# EAGLE library part MT48LC8M16A2 (library parts)
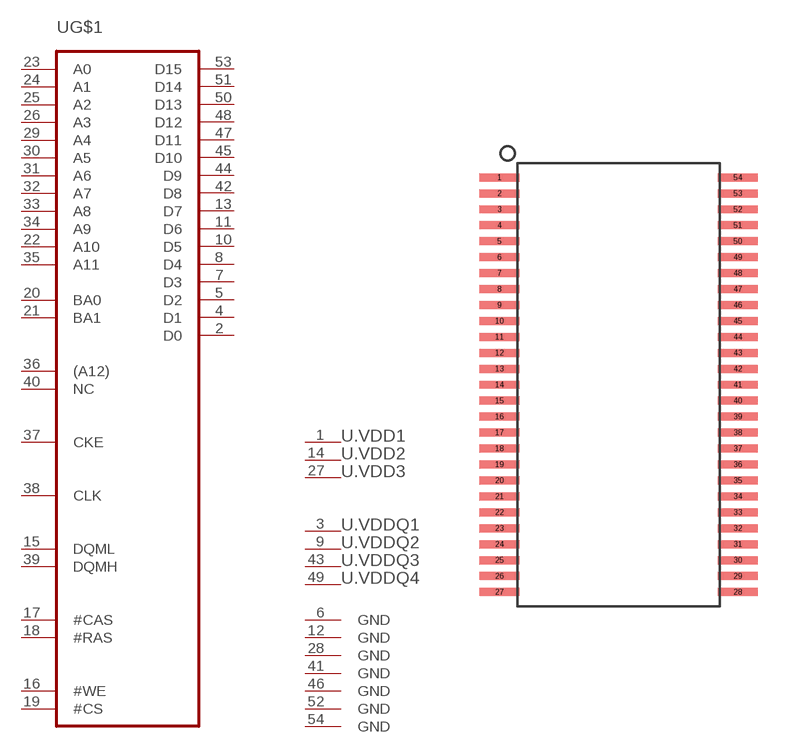
[diagram p1: symbol with the pads of TSSOP-54; footprint TSSOP-54]

Designator prefix U; gates G$1=MT48LC8M16A2 .VDD1=VDD .VDD2=VDD .VDD3=VDD .VDDQ1=VDDQ .VDDQ2=VDDQ .VDDQ3=VDDQ .VDDQ4=VDDQ G$2=GND G$3=GND G$4=GND G$5=GND G$6=GND G$7=GND G$8=GND

## MT48LC8M16A2  [TSSOP-54]
1  .VDD1:VDD  pwr
2  G$1:D0
3  .VDDQ1:VDDQ  pwr
4  G$1:D1
5  G$1:D2
6  G$2:GND  pwr
7  G$1:D3
8  G$1:D4
9  .VDDQ2:VDDQ  pwr
10  G$1:D5
11  G$1:D6
12  G$3:GND  pwr
13  G$1:D7
14  .VDD2:VDD  pwr
15  G$1:DQML
16  G$1:#WE  in
17  G$1:#CAS  in
18  G$1:#RAS  in
19  G$1:#CS  in
20  G$1:BA0
21  G$1:BA1
22  G$1:A10
23  G$1:A0
24  G$1:A1
25  G$1:A2
26  G$1:A3
27  .VDD3:VDD  pwr
28  G$4:GND  pwr
29  G$1:A4
30  G$1:A5
31  G$1:A6
32  G$1:A7
33  G$1:A8
34  G$1:A9
35  G$1:A11
36  G$1:(A12)
37  G$1:CKE  in
38  G$1:CLK  in
39  G$1:DQMH
40  G$1:NC
41  G$5:GND  pwr
42  G$1:D8
43  .VDDQ3:VDDQ  pwr
44  G$1:D9
45  G$1:D10
46  G$6:GND  pwr
47  G$1:D11
48  G$1:D12
49  .VDDQ4:VDDQ  pwr
50  G$1:D13
51  G$1:D14
52  G$7:GND  pwr
53  G$1:D15
54  G$8:GND  pwr

## Footprint TSSOP-54 (pad centres in mm)
smd 2 x 0.4: 1 -5.98,10.4; 2 -5.98,9.6; 3 -5.98,8.8; 4 -5.98,8; 5 -5.98,7.2; 6 -5.98,6.4; 7 -5.98,5.6; 8 -5.98,4.8; 9 -5.98,4; 10 -5.98,3.2; 11 -5.98,2.4; 12 -5.98,1.6; 13 -5.98,0.8; 14 -5.98,0; 15 -5.98,-0.8; 16 -5.98,-1.6; 17 -5.98,-2.4; 18 -5.98,-3.2; 19 -5.98,-4; 20 -5.98,-4.8; 21 -5.98,-5.6; 22 -5.98,-6.4; 23 -5.98,-7.2; 24 -5.98,-8; 25 -5.98,-8.8; 26 -5.98,-9.6; 27 -5.98,-10.4; 28 5.98,-10.4; 29 5.98,-9.6; 30 5.98,-8.8; 31 5.98,-8; 32 5.98,-7.2; 33 5.98,-6.4; 34 5.98,-5.6; 35 5.98,-4.8; 36 5.98,-4; 37 5.98,-3.2; 38 5.98,-2.4; 39 5.98,-1.6; 40 5.98,-0.8; 41 5.98,0; 42 5.98,0.8; 43 5.98,1.6; 44 5.98,2.4; 45 5.98,3.2; 46 5.98,4; 47 5.98,4.8; 48 5.98,5.6; 49 5.98,6.4; 50 5.98,7.2; 51 5.98,8; 52 5.98,8.8; 53 5.98,9.6; 54 5.98,10.4